# EAGLE library part XC18*_PC20 (library xilinx-xc18v)
xc18v01_pc20 edit this description Auto generated by make-symbol-device-package-bsdl.ulp Rev. 26 Source: xc18v01_pc20.bsd
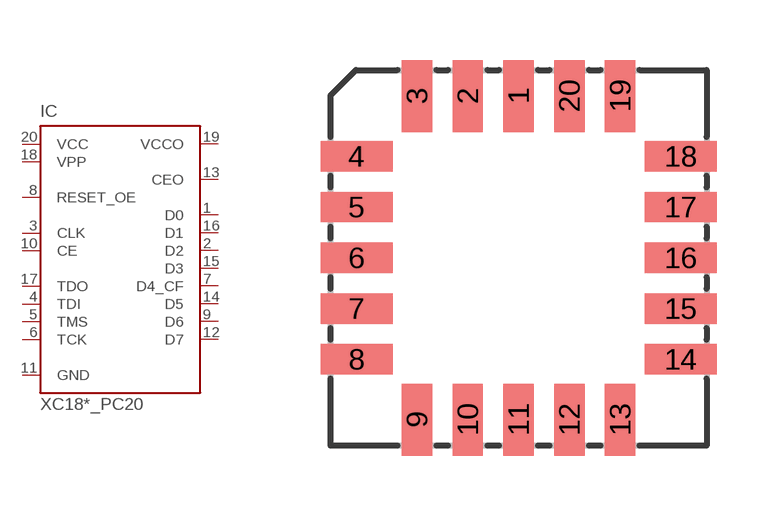
[diagram p0: symbol with the pads of PLCC20; footprint PLCC20]

Designator prefix IC

## XC18V01_PC20P, XC18V256_PC20P  [PLCC20]
1  D0
2  D2
3  CLK  in
4  TDI  in
5  TMS  in
6  TCK  in
7  D4_CF
8  RESET_OE
9  D6
10  CE  in
11  GND  pwr
12  D7
13  CEO  out
14  D5
15  D3
16  D1
17  TDO  out
18  VPP  pas
19  VCCO  pwr
20  VCC  pwr

## Footprint PLCC20 (pad centres in mm)
PLCC (PC20/PCG20) Package
smd 0.76 x 1.8: 1 0,4.05; 2 -1.27,4.05; 3 -2.54,4.05; 9 -2.54,-4.05; 10 -1.27,-4.05; 11 0,-4.05; 12 1.27,-4.05; 13 2.54,-4.05; 19 2.54,4.05; 20 1.27,4.05
smd 1.8 x 0.76: 4 -4.05,2.54; 5 -4.05,1.27; 6 -4.05,0; 7 -4.05,-1.27; 8 -4.05,-2.54; 14 4.05,-2.54; 15 4.05,-1.27; 16 4.05,0; 17 4.05,1.27; 18 4.05,2.54